# EAGLE library part C8051F133 (library Zoli2_2015-01-28)
Mixed signal microcontroller
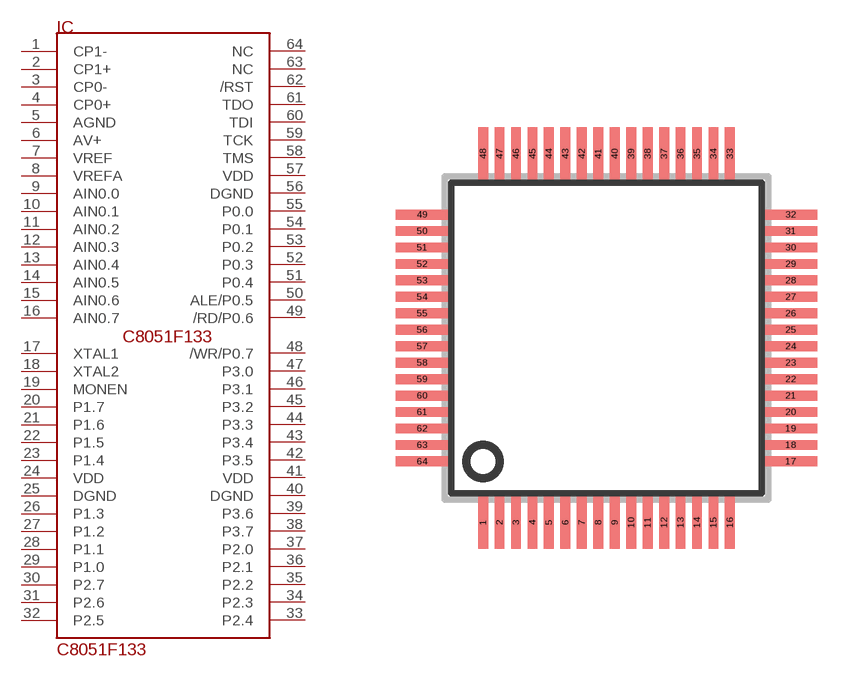
[diagram p11: symbol with the pads of SQFP-S-10X10-64; footprint SQFP-S-10X10-64]

Designator prefix IC

## C8051F133  [SQFP-S-10X10-64]
1  CP1-  in
2  CP1+  in
3  CP0-  in
4  CP0+  in
5  AGND  pwr
6  AV+  pwr
7  VREF
8  VREFA  in
9  AIN0.0  in
10  AIN0.1  in
11  AIN0.2  in
12  AIN0.3  in
13  AIN0.4  in
14  AIN0.5  in
15  AIN0.6  in
16  AIN0.7  in
17  XTAL1  in
18  XTAL2  out
19  MONEN  in
20  P1.7
21  P1.6
22  P1.5
23  P1.4
24  VDD  pwr
25  DGND  pwr
26  P1.3
27  P1.2
28  P1.1
29  P1.0
30  P2.7
31  P2.6
32  P2.5
33  P2.4
34  P2.3
35  P2.2
36  P2.1
37  P2.0
38  P3.7
39  P3.6
40  DGND
41  VDD
42  P3.5
43  P3.4
44  P3.3
45  P3.2
46  P3.1
47  P3.0
48  /WR/P0.7
49  /RD/P0.6
50  ALE/P0.5
51  P0.4
52  P0.3
53  P0.2
54  P0.1
55  P0.0
56  DGND  pwr
57  VDD  pwr
58  TMS  in
59  TCK  in
60  TDI  in
61  TDO  out
62  /RST
63  NC  nc
64  NC  nc

## Footprint SQFP-S-10X10-64 (pad centres in mm)
QFP64 shrink quad flat pack, square
smd 0.3 x 1.6: 1 -3.75,-5.6; 2 -3.25,-5.6; 3 -2.75,-5.6; 4 -2.25,-5.6; 5 -1.75,-5.6; 6 -1.25,-5.6; 7 -0.75,-5.6; 8 -0.25,-5.6; 9 0.25,-5.6; 10 0.75,-5.6; 11 1.25,-5.6; 12 1.75,-5.6; 13 2.25,-5.6; 14 2.75,-5.6; 15 3.25,-5.6; 16 3.75,-5.6; 33 3.75,5.6; 34 3.25,5.6; 35 2.75,5.6; 36 2.25,5.6; 37 1.75,5.6; 38 1.25,5.6; 39 0.75,5.6; 40 0.25,5.6; 41 -0.25,5.6; 42 -0.75,5.6; 43 -1.25,5.6; 44 -1.75,5.6; 45 -2.25,5.6; 46 -2.75,5.6; 47 -3.25,5.6; 48 -3.75,5.6
smd 1.6 x 0.3: 17 5.6,-3.75; 18 5.6,-3.25; 19 5.6,-2.75; 20 5.6,-2.25; 21 5.6,-1.75; 22 5.6,-1.25; 23 5.6,-0.75; 24 5.6,-0.25; 25 5.6,0.25; 26 5.6,0.75; 27 5.6,1.25; 28 5.6,1.75; 29 5.6,2.25; 30 5.6,2.75; 31 5.6,3.25; 32 5.6,3.75; 49 -5.6,3.75; 50 -5.6,3.25; 51 -5.6,2.75; 52 -5.6,2.25; 53 -5.6,1.75; 54 -5.6,1.25; 55 -5.6,0.75; 56 -5.6,0.25; 57 -5.6,-0.25; 58 -5.6,-0.75; 59 -5.6,-1.25; 60 -5.6,-1.75; 61 -5.6,-2.25; 62 -5.6,-2.75; 63 -5.6,-3.25; 64 -5.6,-3.75